# Altium footprint library 691 253 900 0xx.PcbLib: 2 footprints
Each footprint in its own frame and in the unit in brackets; x right, y up, seen from the top. Pads: shape width x height; smd on the part's side, far side on the other; paste and mask are expansions set on the pad; w line width, h text height; cw(c..) or ccw(c..) is an arc to the next point about the centre after c.
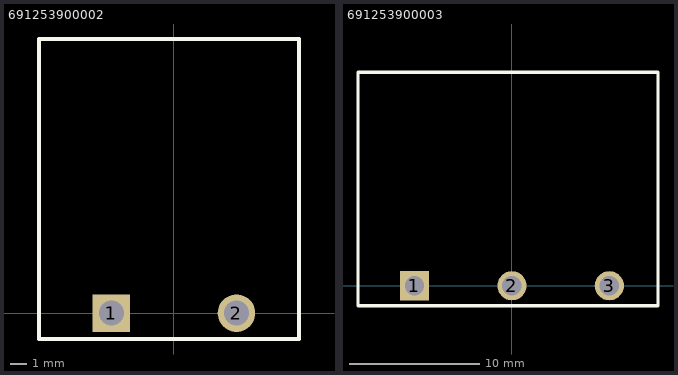
[diagram p0: the footprints below, top view; thin cyan lines are the x and y axes]

## 691253900002 [mm] "Serie 2539 - 7.50 mm _ 2 pins"
height 11.2
pads (2):
  rect 2.25x2.25 hole 1.5: 1(-3.75,0)
  round 2.25 hole 1.5: 2(3.75,0)
Top Overlay:
  lines w0.254: -8.1,-1.55 7.5,-1.55 7.5,16.45 -8.1,16.45 -8.1,-1.55
3D body: height 11.35, standoff -3.85, extent -8.2,-1.6 7.4,16.4

## 691253900003 [mm] "Serie 2539 - 7.50 mm _ 3 pins"
height 11.2
pads (3):
  rect 2.25x2.25 hole 1.5: 1(-7.5,0)
  round 2.25 hole 1.5: 2(0,0) 3(7.5,0)
Top Overlay:
  lines w0.254: -11.85,-1.55 11.25,-1.55 11.25,16.45 -11.85,16.45 -11.85,-1.55
3D body: height 11.35, standoff -3.85, extent -11.8,-1.6 11.3,16.4